# Altium footprint library Трансформаторы импульсные (открытого исполения).PcbLib: 55 footprints (part 2 of 4)
Each footprint in its own frame and in the unit in brackets; x right, y up, seen from the top. Pads: shape width x height; smd on the part's side, far side on the other; paste and mask are expansions set on the pad; w line width, h text height; cw(c..) or ccw(c..) is an arc to the next point about the centre after c.
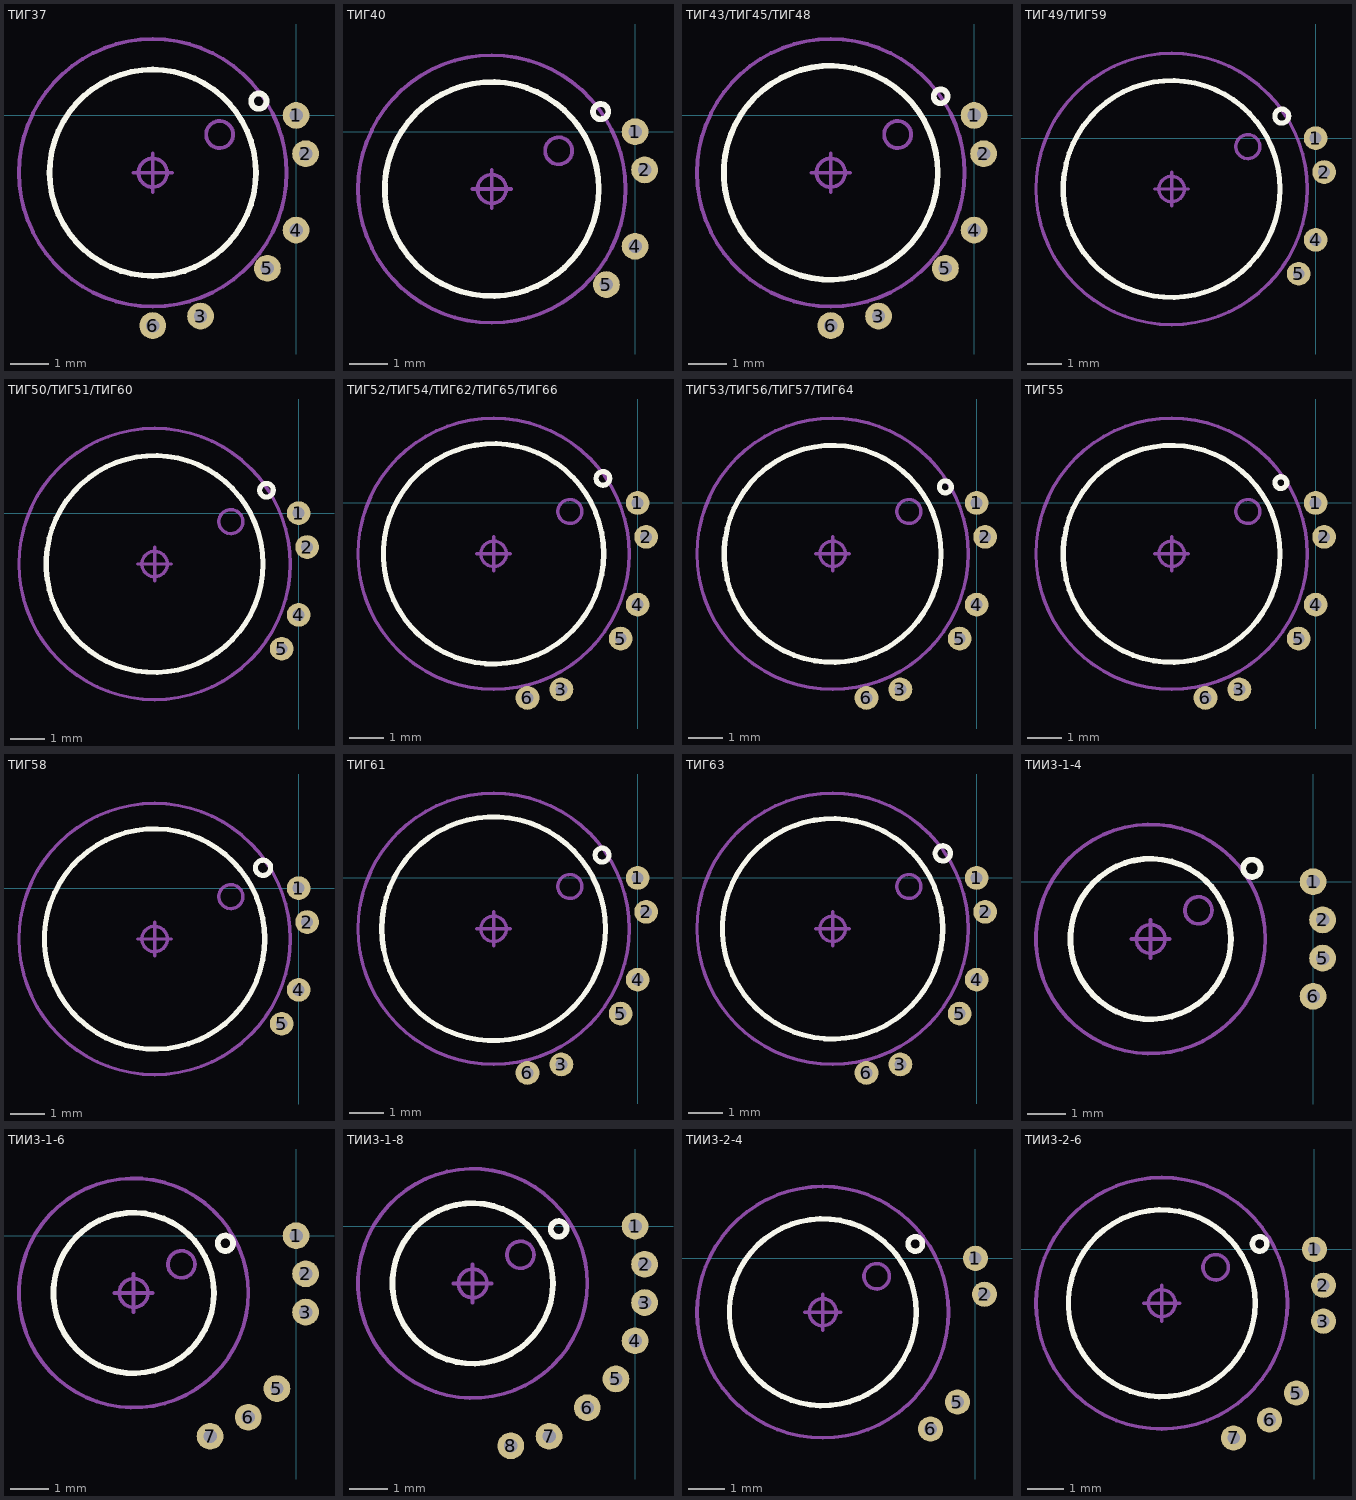
[diagram p1: the footprints below, top view; thin cyan lines are the x and y axes]

## ТИГ37 [mm] "5,4x5,4x2,2, 0.12g"
height 2.2
pads (6):
  round 0.7 hole 0.35: 1(0,0) 2(0.25,-1) 3(-2.5,-5.25) 4(0,-3) 5(-0.75,-4) 6(-3.75,-5.5)
Top Overlay:
  circle w0.15: c-3.75,-1.5 r2.7
  circle w0.15: c-0.975,0.375 r0.202
Top Assembly:
  circle w0.1: c-3.75,-1.5 r2.7
  circle w0.1: c-2,-0.5 r0.354
Top Courtyard (Mech15):
  circle w0.1: c-3.75,-1.5 r0.375
  circle w0.1: c-3.75,-1.5 r3.5
  lines w0.1: -4.25,-1.5 -3.25,-1.5 ; -3.75,-2 -3.75,-1
3D body: height 0.25, standoff 0, extent -3.75,-1.5 -3.75,-1.5
3D body: height 0.25, standoff 0, extent -11.5,-5.5 -11.5,-5.5

## ТИГ40 [mm] "5,6x5,6x2,5, 0.12g"
height 2.5
pads (4):
  round 0.7 hole 0.35: 1(0,0) 2(0.25,-1) 4(0,-3) 5(-0.75,-4)
Top Overlay:
  circle w0.15: c-3.75,-1.5 r2.8
  circle w0.15: c-0.9,0.525 r0.2
Top Assembly:
  circle w0.1: c-3.75,-1.5 r2.8
  circle w0.1: c-2,-0.5 r0.354
Top Courtyard (Mech15):
  circle w0.1: c-3.75,-1.5 r0.375
  circle w0.1: c-3.75,-1.5 r3.5
  lines w0.1: -4.25,-1.5 -3.25,-1.5 ; -3.75,-2 -3.75,-1
3D body: height 0.25, standoff 0, extent -3.75,-1.5 -3.75,-1.5
3D body: height 0.25, standoff 0, extent -11.5,-5.5 -11.5,-5.5

## ТИГ43/ТИГ45/ТИГ48 [mm] "5,6x5,6x2,6, 0.15g"
height 2.6
pads (6):
  round 0.7 hole 0.35: 1(0,0) 2(0.25,-1) 3(-2.5,-5.25) 4(0,-3) 5(-0.75,-4) 6(-3.75,-5.5)
Top Overlay:
  circle w0.15: c-0.875,0.5 r0.182
  circle w0.15: c-3.75,-1.5 r2.8
Top Assembly:
  circle w0.1: c-2,-0.5 r0.354
  circle w0.1: c-3.75,-1.5 r2.8
Top Courtyard (Mech15):
  circle w0.1: c-3.75,-1.5 r3.5
  circle w0.1: c-3.75,-1.5 r0.375
  lines w0.1: -4.25,-1.5 -3.25,-1.5 ; -3.75,-2 -3.75,-1
3D body: height 0.25, standoff 0, extent -11.5,-5.5 -11.5,-5.5
3D body: height 0.25, standoff 0, extent -3.75,-1.5 -3.75,-1.5

## ТИГ49/ТИГ59 [mm] "6,4x6,4x2,5, 0.18g"
height 2.5
pads (4):
  round 0.7 hole 0.35: 1(0,0) 2(0.25,-1) 4(0,-3) 5(-0.5,-4)
Top Overlay:
  circle w0.15: c-1,0.65 r0.206
  circle w0.15: c-4.25,-1.5 r3.2
Top Assembly:
  circle w0.1: c-2,-0.25 r0.354
  circle w0.1: c-4.25,-1.5 r3.2
Top Courtyard (Mech15):
  circle w0.1: c-4.25,-1.5 r4
  circle w0.1: c-4.25,-1.5 r0.375
  lines w0.1: -4.75,-1.5 -3.75,-1.5 ; -4.25,-2 -4.25,-1
3D body: height 0.25, standoff 0, extent -12,-5.5 -12,-5.5
3D body: height 0.25, standoff 0, extent -4.25,-1.5 -4.25,-1.5

## ТИГ50/ТИГ51/ТИГ60 [mm] "6,4x6,4x2,4, 0.18g"
height 2.4
pads (4):
  round 0.7 hole 0.35: 1(0,0) 2(0.25,-1) 4(0,-3) 5(-0.5,-4)
Top Overlay:
  circle w0.15: c-0.95,0.675 r0.202
  circle w0.15: c-4.25,-1.5 r3.2
Top Assembly:
  circle w0.1: c-2,-0.25 r0.354
  circle w0.1: c-4.25,-1.5 r3.2
Top Courtyard (Mech15):
  circle w0.1: c-4.25,-1.5 r4
  circle w0.1: c-4.25,-1.5 r0.375
  lines w0.1: -4.75,-1.5 -3.75,-1.5 ; -4.25,-2 -4.25,-1
3D body: height 0.25, standoff 0, extent -12,-5.5 -12,-5.5
3D body: height 0.25, standoff 0, extent -4.25,-1.5 -4.25,-1.5

## ТИГ52/ТИГ54/ТИГ62/ТИГ65/ТИГ66 [mm] "6,5x6,5x2,6, 0.2g"
height 2.6
pads (6):
  round 0.7 hole 0.35: 1(0,0) 2(0.25,-1) 3(-2.25,-5.5) 4(0,-3) 5(-0.5,-4) 6(-3.25,-5.75)
Top Overlay:
  circle w0.15: c-1.025,0.725 r0.202
  circle w0.15: c-4.25,-1.5 r3.25
Top Assembly:
  circle w0.1: c-2,-0.25 r0.354
  circle w0.1: c-4.25,-1.5 r3.25
Top Courtyard (Mech15):
  circle w0.1: c-4.25,-1.5 r4
  circle w0.1: c-4.25,-1.5 r0.375
  lines w0.1: -4.75,-1.5 -3.75,-1.5 ; -4.25,-2 -4.25,-1
3D body: height 0.25, standoff 0, extent -12,-5.5 -12,-5.5
3D body: height 0.25, standoff 0, extent -4.25,-1.5 -4.25,-1.5

## ТИГ53/ТИГ56/ТИГ57/ТИГ64 [mm] "6,4x6,4x2,5, 0.18g"
height 2.5
pads (6):
  round 0.7 hole 0.35: 1(0,0) 2(0.25,-1) 3(-2.25,-5.5) 4(0,-3) 5(-0.5,-4) 6(-3.25,-5.75)
Top Overlay:
  circle w0.15: c-0.925,0.475 r0.177
  circle w0.15: c-4.25,-1.5 r3.2
Top Assembly:
  circle w0.1: c-2,-0.25 r0.354
  circle w0.1: c-4.25,-1.5 r3.2
Top Courtyard (Mech15):
  circle w0.1: c-4.25,-1.5 r4
  circle w0.1: c-4.25,-1.5 r0.375
  lines w0.1: -4.75,-1.5 -3.75,-1.5 ; -4.25,-2 -4.25,-1
3D body: height 0.25, standoff 0, extent -12,-5.5 -12,-5.5
3D body: height 0.25, standoff 0, extent -4.25,-1.5 -4.25,-1.5

## ТИГ55 [mm] "6,4x6,4x2,4, 0.18g"
height 2.4
pads (6):
  round 0.7 hole 0.35: 1(0,0) 2(0.25,-1) 3(-2.25,-5.5) 4(0,-3) 5(-0.5,-4) 6(-3.25,-5.75)
Top Overlay:
  circle w0.15: c-4.25,-1.5 r3.2
  circle w0.15: c-1.025,0.6 r0.175
Top Assembly:
  circle w0.1: c-4.25,-1.5 r3.2
  circle w0.1: c-2,-0.25 r0.354
Top Courtyard (Mech15):
  circle w0.1: c-4.25,-1.5 r0.375
  circle w0.1: c-4.25,-1.5 r4
  lines w0.1: -4.75,-1.5 -3.75,-1.5 ; -4.25,-2 -4.25,-1
3D body: height 0.25, standoff 0, extent -4.25,-1.5 -4.25,-1.5
3D body: height 0.25, standoff 0, extent -12,-5.5 -12,-5.5

## ТИГ58 [mm] "6,5x6,5x2,6, 0.2g"
height 2.6
pads (4):
  round 0.7 hole 0.35: 1(0,0) 2(0.25,-1) 4(0,-3) 5(-0.5,-4)
Top Overlay:
  circle w0.15: c-4.25,-1.5 r3.25
  circle w0.15: c-1.05,0.6 r0.225
Top Assembly:
  circle w0.1: c-4.25,-1.5 r3.25
  circle w0.1: c-2,-0.25 r0.354
Top Courtyard (Mech15):
  circle w0.1: c-4.25,-1.5 r0.375
  circle w0.1: c-4.25,-1.5 r4
  lines w0.1: -4.75,-1.5 -3.75,-1.5 ; -4.25,-2 -4.25,-1
3D body: height 0.25, standoff 0, extent -4.25,-1.5 -4.25,-1.5
3D body: height 0.25, standoff 0, extent -12,-5.5 -12,-5.5

## ТИГ61 [mm] "6,6x6,6x2,8, 0.22g"
height 2.8
pads (6):
  round 0.7 hole 0.35: 1(0,0) 2(0.25,-1) 3(-2.25,-5.5) 4(0,-3) 5(-0.5,-4) 6(-3.25,-5.75)
Top Overlay:
  circle w0.15: c-1.05,0.675 r0.206
  circle w0.15: c-4.25,-1.5 r3.3
Top Assembly:
  circle w0.1: c-2,-0.25 r0.354
  circle w0.1: c-4.25,-1.5 r3.3
Top Courtyard (Mech15):
  circle w0.1: c-4.25,-1.5 r4
  circle w0.1: c-4.25,-1.5 r0.375
  lines w0.1: -4.75,-1.5 -3.75,-1.5 ; -4.25,-2 -4.25,-1
3D body: height 0.25, standoff 0, extent -12,-5.5 -12,-5.5
3D body: height 0.25, standoff 0, extent -4.25,-1.5 -4.25,-1.5

## ТИГ63 [mm] "6,5x6,5x2,8, 0.2g"
height 2.8
pads (6):
  round 0.7 hole 0.35: 1(0,0) 2(0.25,-1) 3(-2.25,-5.5) 4(0,-3) 5(-0.5,-4) 6(-3.25,-5.75)
Top Overlay:
  circle w0.15: c-1,0.725 r0.225
  circle w0.15: c-4.25,-1.5 r3.25
Top Assembly:
  circle w0.1: c-2,-0.25 r0.354
  circle w0.1: c-4.25,-1.5 r3.25
Top Courtyard (Mech15):
  circle w0.1: c-4.25,-1.5 r4
  circle w0.1: c-4.25,-1.5 r0.375
  lines w0.1: -4.75,-1.5 -3.75,-1.5 ; -4.25,-2 -4.25,-1
3D body: height 0.25, standoff 0, extent -12,-5.5 -12,-5.5
3D body: height 0.25, standoff 0, extent -4.25,-1.5 -4.25,-1.5

## ТИИ3-1-4 [mm] "4,2x4,2x1,7, 0.12g"
height 1.7
pads (4):
  round 0.7 hole 0.35: 1(0,0) 2(0.25,-1) 5(0.25,-2) 6(0,-3)
Top Overlay:
  circle w0.15: c-4.25,-1.5 r2.1
  circle w0.15: c-1.6,0.35 r0.226
Top Assembly:
  circle w0.1: c-4.25,-1.5 r2.1
  circle w0.1: c-3,-0.75 r0.354
Top Courtyard (Mech15):
  circle w0.1: c-4.25,-1.5 r0.375
  circle w0.1: c-4.25,-1.5 r3
  lines w0.1: -4.75,-1.5 -3.75,-1.5 ; -4.25,-2 -4.25,-1
3D body: height 0.25, standoff 0, extent -4.25,-1.5 -4.25,-1.5
3D body: height 0.25, standoff 0, extent -12,-5.5 -12,-5.5

## ТИИ3-1-6 [mm] "4,2x4,2x1,7, 0.12g"
height 1.7
pads (6):
  round 0.7 hole 0.35: 1(0,0) 2(0.25,-1) 3(0.25,-2) 5(-0.5,-4) 6(-1.25,-4.75) 7(-2.25,-5.25)
Top Overlay:
  circle w0.15: c-1.85,-0.2 r0.202
  circle w0.15: c-4.25,-1.5 r2.1
Top Assembly:
  circle w0.1: c-3,-0.75 r0.354
  circle w0.1: c-4.25,-1.5 r2.1
Top Courtyard (Mech15):
  circle w0.1: c-4.25,-1.5 r3
  circle w0.1: c-4.25,-1.5 r0.375
  lines w0.1: -4.75,-1.5 -3.75,-1.5 ; -4.25,-2 -4.25,-1
3D body: height 0.25, standoff 0, extent -12,-5.5 -12,-5.5
3D body: height 0.25, standoff 0, extent -4.25,-1.5 -4.25,-1.5

## ТИИ3-1-8 [mm] "4,2x4,2x1,7, 0.12g"
height 1.7
pads (8):
  round 0.7 hole 0.35: 1(0,0) 2(0.25,-1) 3(0.25,-2) 4(0,-3) 5(-0.5,-4) 6(-1.25,-4.75) 7(-2.25,-5.5) 8(-3.25,-5.75)
Top Overlay:
  circle w0.15: c-4.25,-1.5 r2.1
  circle w0.15: c-2,-0.075 r0.206
Top Assembly:
  circle w0.1: c-4.25,-1.5 r2.1
  circle w0.1: c-3,-0.75 r0.354
Top Courtyard (Mech15):
  circle w0.1: c-4.25,-1.5 r0.375
  circle w0.1: c-4.25,-1.5 r3
  lines w0.1: -4.75,-1.5 -3.75,-1.5 ; -4.25,-2 -4.25,-1
3D body: height 0.25, standoff 0, extent -4.25,-1.5 -4.25,-1.5
3D body: height 0.25, standoff 0, extent -12,-5.5 -12,-5.5

## ТИИ3-2-4 [mm] "5,2x5,2x1,7, 0.15g"
height 1.7
pads (4):
  round 0.7 hole 0.35: 1(0,0) 2(0.25,-1) 5(-0.5,-4) 6(-1.25,-4.75)
Top Overlay:
  circle w0.15: c-1.675,0.4 r0.202
  circle w0.15: c-4.25,-1.5 r2.6
Top Assembly:
  circle w0.1: c-2.75,-0.5 r0.354
  circle w0.1: c-4.25,-1.5 r2.6
Top Courtyard (Mech15):
  circle w0.1: c-4.25,-1.5 r3.5
  circle w0.1: c-4.25,-1.5 r0.375
  lines w0.1: -4.75,-1.5 -3.75,-1.5 ; -4.25,-2 -4.25,-1
3D body: height 0.25, standoff 0, extent -12,-5.5 -12,-5.5
3D body: height 0.25, standoff 0, extent -4.25,-1.5 -4.25,-1.5

## ТИИ3-2-6 [mm] "5,2x5,2x1,7, 0.15g"
height 1.7
pads (6):
  round 0.7 hole 0.35: 1(0,0) 2(0.25,-1) 3(0.25,-2) 5(-0.5,-4) 6(-1.25,-4.75) 7(-2.25,-5.25)
Top Overlay:
  circle w0.15: c-1.525,0.15 r0.202
  circle w0.15: c-4.25,-1.5 r2.6
Top Assembly:
  circle w0.1: c-2.75,-0.5 r0.354
  circle w0.1: c-4.25,-1.5 r2.6
Top Courtyard (Mech15):
  circle w0.1: c-4.25,-1.5 r3.5
  circle w0.1: c-4.25,-1.5 r0.375
  lines w0.1: -4.75,-1.5 -3.75,-1.5 ; -4.25,-2 -4.25,-1
3D body: height 0.25, standoff 0, extent -12,-5.5 -12,-5.5
3D body: height 0.25, standoff 0, extent -4.25,-1.5 -4.25,-1.5